# EAGLE library part DF52-5 (library Custom_Library)
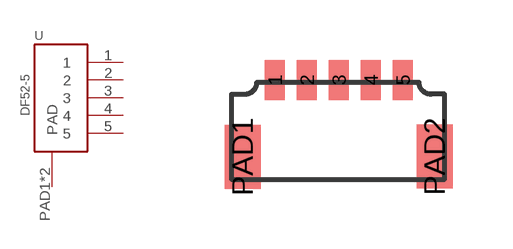
[diagram p11: symbol with the pads of DF52-5; footprint DF52-5]

Designator prefix -

## DF52-5  [DF52-5]
1  1
2  2
3  3
4  4
5  5
PAD1  PAD
PAD2  PAD

## Footprint DF52-5 (pad centres in mm)
smd 0.5 x 1: 1 -1.56,1.41; 2 -0.76,1.41; 3 0.04,1.41; 4 0.84,1.41; 5 1.64,1.41
smd 0.9 x 1.6: PAD1 -2.37,-0.52; PAD2 2.43,-0.51